# Altium footprint library SOD3716X135N.PcbLib: 2 footprints
Each footprint in its own frame and in the unit in brackets; x right, y up, seen from the top. Pads: shape width x height; smd on the part's side, far side on the other; paste and mask are expansions set on the pad; w line width, h text height; cw(c..) or ccw(c..) is an arc to the next point about the centre after c.
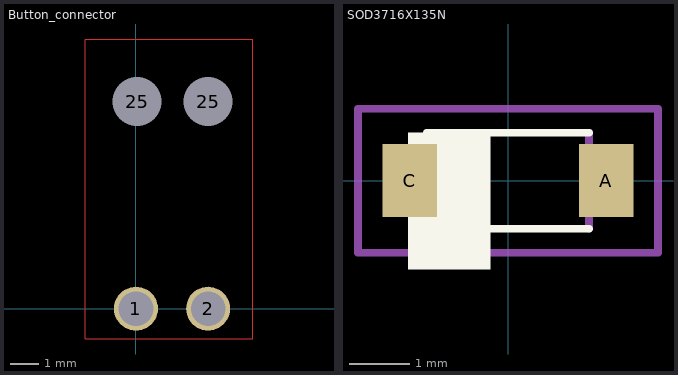
[diagram p0: the footprints below, top view; thin cyan lines are the x and y axes]

## Button_connector [mm]
pads (4):
  round 1.524 hole 1.2: 1(0,0) 2(2.5,0)
  round 1.524 hole 1.7: 25(0.04,7.18) 25(2.5,7.18)
Top Layer:
  lines w0.025: -1.76,-1.05 -1.76,9.13 -1.76,9.33 -1.74,9.35 -1.54,9.35 4.05,9.35 4.05,-1.05 -1.76,-1.05

## SOD3716X135N [mm]
pads (2):
  rect 0.91x1.22 smd: A(1.635,0) C(-1.635,0)
Top Overlay:
  region: -1.663,0.8 -0.3,0.8 -0.3,-1.479 -1.663,-1.479
  lines w0.127: -1.35,-0.8 1.35,-0.8 ; -1.35,0.8 1.35,0.8
Mechanical 1:
  lines w0.127: -1.35,-0.8 -1.35,0.8 ; 1.35,-0.8 1.35,0.8 ; -2.5,-1.2 2.5,-1.2 2.5,1.2 -2.5,1.2 -2.5,-1.2